# Altium footprint library HGH.PcbLib: 336 footprints (part 14 of 21)
Each footprint in its own frame and in the unit in brackets; x right, y up, seen from the top. Pads: shape width x height; smd on the part's side, far side on the other; paste and mask are expansions set on the pad; w line width, h text height; cw(c..) or ccw(c..) is an arc to the next point about the centre after c.
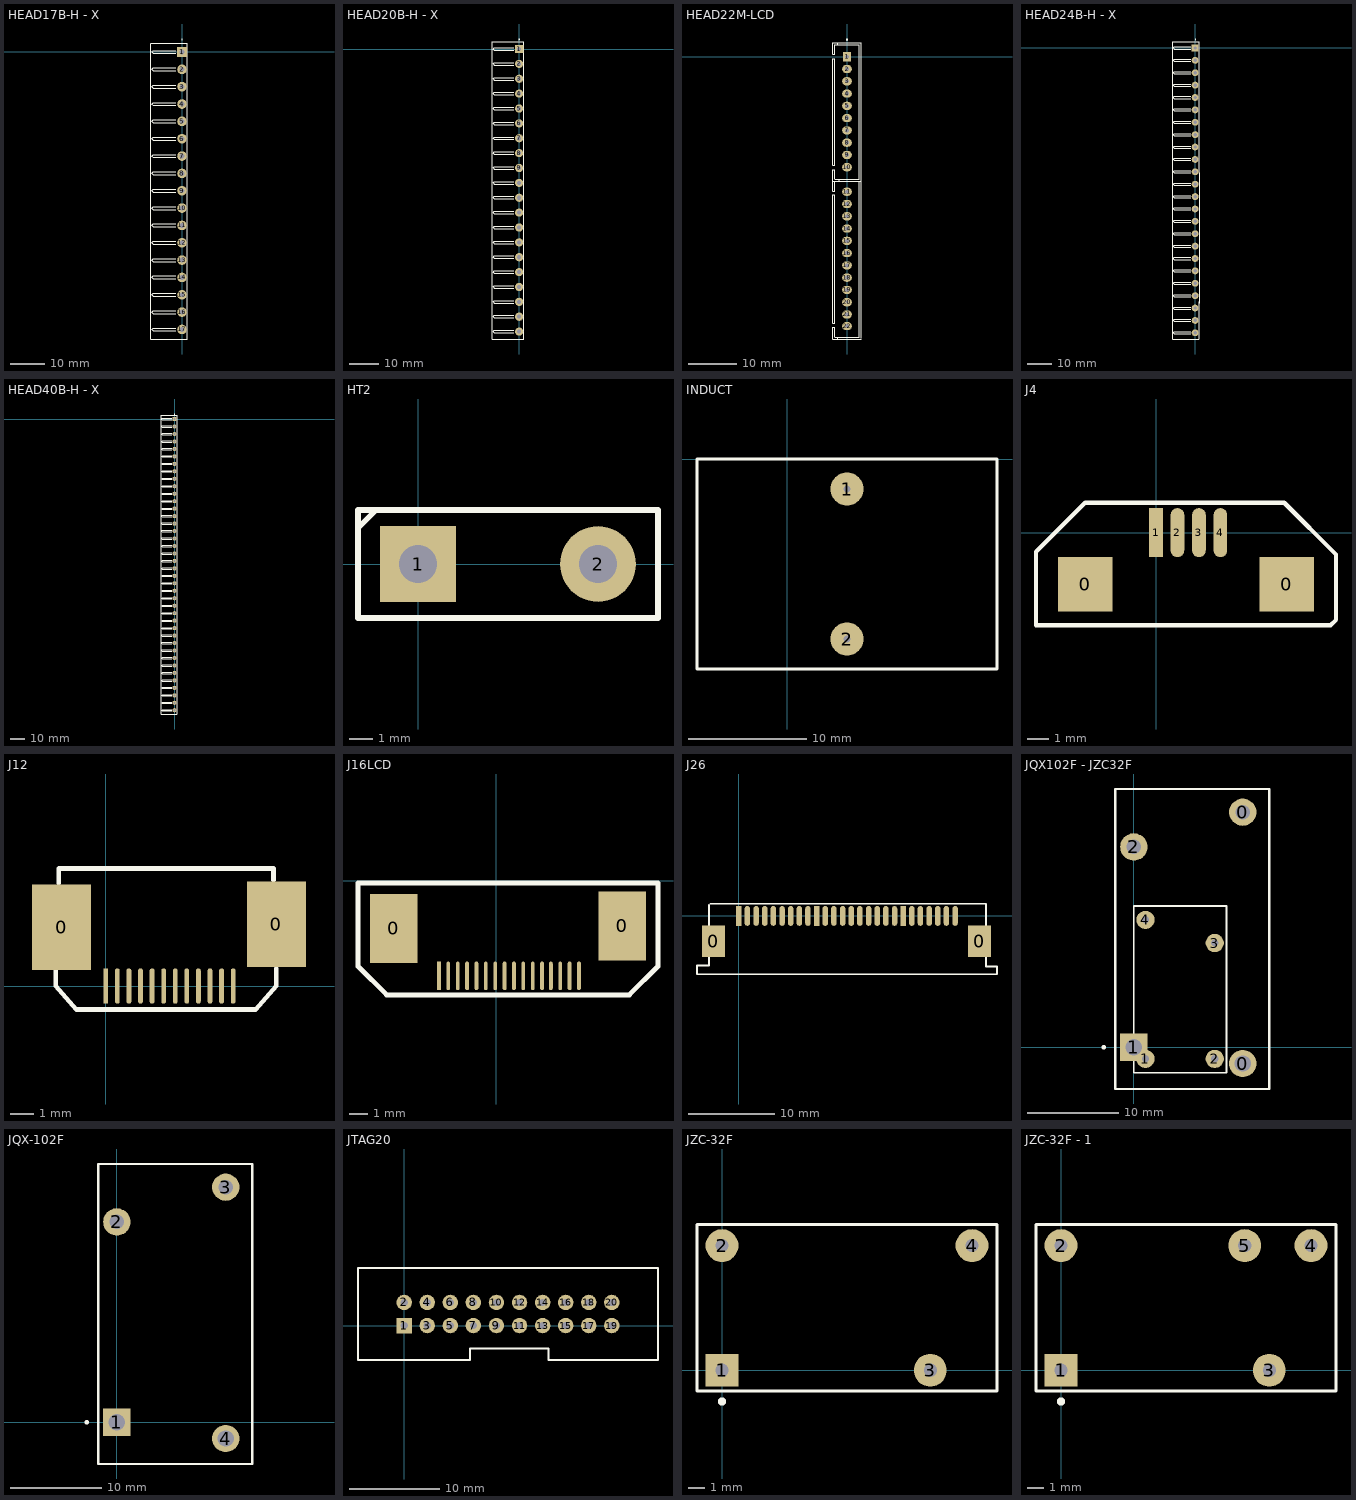
[diagram p13: the footprints below, top view; thin cyan lines are the x and y axes]

## HEAD17B-H - X [mm]
pads (17):
  rect 2.8x2.8 hole 1.4: 1(0,0)
  round 2.8 hole 1.4: 2(0,-5.08) 3(0,-10.16) 4(0,-15.24) 5(0,-20.32) 6(0,-25.4) 7(0,-30.48) 8(0,-35.56) 9(0,-40.64) 10(0,-45.72) 11(0,-50.8) 12(0,-55.88) 13(0,-60.96) 14(0,-66.04) 15(0,-71.12) 16(0,-76.2) 17(0,-81.28)
Top Overlay:
  circle w0.25: c0,3.681 r0.125
  lines w0.2: -9.144,2.413 -9.144,-84.074 1.524,-84.074 1.524,-58.42 ; -9.144,2.54 1.524,2.54 1.524,-58.801 ; -1.82,-81.703 -8.467,-81.703 -8.89,-81.28 -8.467,-80.857 -1.82,-80.857 ; -1.82,-76.623 -8.467,-76.623 -8.89,-76.2 -8.467,-75.777 -1.82,-75.777 ; -1.82,-71.543 -8.467,-71.543 -8.89,-71.12 -8.467,-70.697 -1.82,-70.697 ; -1.82,-66.463 -8.467,-66.463 -8.89,-66.04 -8.467,-65.617 -1.82,-65.617 ; -1.82,-61.383 -8.467,-61.383 -8.89,-60.96 -8.467,-60.537 -1.82,-60.537 ; -1.82,-56.303 -8.467,-56.303 -8.89,-55.88 -8.467,-55.457 -1.82,-55.457 ; -1.82,-51.223 -8.467,-51.223 -8.89,-50.8 -8.467,-50.377 -1.82,-50.377 ; -1.82,-46.143 -8.467,-46.143 -8.89,-45.72 -8.467,-45.297 -1.82,-45.297 ; -1.82,-41.063 -8.467,-41.063 -8.89,-40.64 -8.467,-40.217 -1.82,-40.217 ; -1.82,-35.983 -8.467,-35.983 -8.89,-35.56 -8.467,-35.137 -1.82,-35.137 ; -1.82,-30.903 -8.467,-30.903 -8.89,-30.48 -8.467,-30.057 -1.82,-30.057 ; -1.82,-25.823 -8.467,-25.823 -8.89,-25.4 -8.467,-24.977 -1.82,-24.977 ; -1.82,-20.743 -8.467,-20.743 -8.89,-20.32 -8.467,-19.897 -1.82,-19.897 ; -1.82,-15.663 -8.467,-15.663 -8.89,-15.24 -8.467,-14.817 -1.82,-14.817 ; -1.82,-10.583 -8.467,-10.583 -8.89,-10.16 -8.467,-9.737 -1.82,-9.737 ; -1.82,-5.503 -8.467,-5.503 -8.89,-5.08 -8.467,-4.657 -1.82,-4.657 ; -1.82,-0.423 -8.467,-0.423 -8.89,0 -8.467,0.423 -1.82,0.423

## HEAD20B-H - X [mm]
pads (20):
  rect 2.8x2.8 hole 1.4: 1(0,0)
  round 2.8 hole 1.4: 2(0,-5.08) 3(0,-10.16) 4(0,-15.24) 5(0,-20.32) 6(0,-25.4) 7(0,-30.48) 8(0,-35.56) 9(0,-40.64) 10(0,-45.72) 11(0,-50.8) 12(0,-55.88) 13(0,-60.96) 14(0,-66.04) 15(0,-71.12) 16(0,-76.2) 17(0,-81.28) 18(0,-86.36) 19(0,-91.44) 20(0,-96.52)
Top Overlay:
  circle w0.25: c0,3.3 r0.125
  lines w0.2: -1.82,-96.943 -8.467,-96.943 -8.89,-96.52 -8.467,-96.097 -1.82,-96.097 ; -1.82,-91.863 -8.467,-91.863 -8.89,-91.44 -8.467,-91.017 -1.82,-91.017 ; -1.82,-86.783 -8.467,-86.783 -8.89,-86.36 -8.467,-85.937 -1.82,-85.937 ; -1.82,-81.703 -8.467,-81.703 -8.89,-81.28 -8.467,-80.857 -1.82,-80.857 ; -1.82,-76.623 -8.467,-76.623 -8.89,-76.2 -8.467,-75.777 -1.82,-75.777 ; -1.82,-71.543 -8.467,-71.543 -8.89,-71.12 -8.467,-70.697 -1.82,-70.697 ; -1.82,-66.463 -8.467,-66.463 -8.89,-66.04 -8.467,-65.617 -1.82,-65.617 ; -1.82,-61.383 -8.467,-61.383 -8.89,-60.96 -8.467,-60.537 -1.82,-60.537 ; -1.82,-56.303 -8.467,-56.303 -8.89,-55.88 -8.467,-55.457 -1.82,-55.457 ; -1.82,-51.223 -8.467,-51.223 -8.89,-50.8 -8.467,-50.377 -1.82,-50.377 ; -1.82,-46.143 -8.467,-46.143 -8.89,-45.72 -8.467,-45.297 -1.82,-45.297 ; -1.82,-41.063 -8.467,-41.063 -8.89,-40.64 -8.467,-40.217 -1.82,-40.217 ; -1.82,-35.983 -8.467,-35.983 -8.89,-35.56 -8.467,-35.137 -1.82,-35.137 ; -1.82,-30.903 -8.467,-30.903 -8.89,-30.48 -8.467,-30.057 -1.82,-30.057 ; -1.82,-25.823 -8.467,-25.823 -8.89,-25.4 -8.467,-24.977 -1.82,-24.977 ; -1.82,-20.743 -8.467,-20.743 -8.89,-20.32 -8.467,-19.897 -1.82,-19.897 ; -1.82,-15.663 -8.467,-15.663 -8.89,-15.24 -8.467,-14.817 -1.82,-14.817 ; -1.82,-10.583 -8.467,-10.583 -8.89,-10.16 -8.467,-9.737 -1.82,-9.737 ; -1.82,-5.503 -8.467,-5.503 -8.89,-5.08 -8.467,-4.657 -1.82,-4.657 ; -1.82,-0.423 -8.467,-0.423 -8.89,0 -8.467,0.423 -1.82,0.423 ; 1.524,-88.9 1.524,-99.06 -9.144,-99.06 -9.144,-88.9 -9.144,-78.74 -9.144,-68.58 -9.144,-58.42 -9.144,-48.26 -9.144,-38.1 -9.144,-27.94 -9.144,-17.78 -9.144,-7.62 -9.144,2.54 1.524,2.54 1.524,-48.26 1.524,-88.773

## HEAD22M-LCD [mm]
pads (22):
  rect 1.7x2 hole 0.8: 1(0,0)
  oval 2x1.7 hole 0.8: 2(0,-2.54) 3(0,-5.08) 4(0,-7.62) 5(0,-10.16) 6(0,-12.7) 7(0,-15.24) 8(0,-17.78) 9(0,-20.32) 11(0,-27.94) 12(0,-30.48) 13(0,-33.02) 14(0,-35.56) 15(0,-38.1) 16(0,-40.64) 17(0,-43.18) 18(0,-45.72) 19(0,-48.26) 21(0,-53.34) 22(0,-55.753)
  oval 2x1.7 hole 0.6: 10(0,-22.86) 20(0,-50.8)
Top Overlay:
  circle w0.25: c0,3.554 r0.125
  lines w0.2: -2.54,-58.039 2.54,-58.039 ; -2.54,-25.4 2.54,-25.4 ; -2.54,2.54 2.54,2.54
  lines w0.254: -2.54,-57.912 -2.54,-56.007 -2.921,-56.007 -2.921,-58.42 2.921,-58.42 ; -2.54,-25.781 -2.54,-27.813 -2.921,-27.813 -2.921,-25.781 ; -2.54,-25.273 -2.54,-23.368 -2.921,-23.368 -2.921,-25.781 ; -2.54,2.54 -2.54,0.508 -2.921,0.508 -2.921,2.921 2.921,2.921 2.921,-25.781 -2.921,-25.781 ; -1.905,-58.42 -1.905,-58.039 ; -1.905,2.54 -1.905,2.794 ; -1.651,-25.781 -1.651,-25.4 ; 2.54,-58.039 2.54,-25.781 ; 2.54,-25.4 2.54,2.54 ; 2.921,-58.293 2.921,-25.654 ; -2.921,-55.118 -2.921,-28.575 -2.54,-28.575 -2.54,-55.118 -2.921,-55.118 ; -2.921,-22.479 -2.921,-0.381 -2.54,-0.381 -2.54,-22.479 -2.921,-22.479

## HEAD24B-H - X [mm]
pads (24):
  rect 2.8x2.8 hole 1.4: 1(0,0)
  round 2.8 hole 1.4: 2(0,-5.08) 3(0,-10.16) 4(0,-15.24) 5(0,-20.32) 6(0,-25.4) 7(0,-30.48) 8(0,-35.56) 9(0,-40.64) 10(0,-45.72) 11(0,-50.8) 12(0,-55.88) 13(0,-60.96) 14(0,-66.04) 15(0,-71.12) 16(0,-76.2) 17(0,-81.28) 18(0,-86.36) 19(0,-91.44) 20(0,-96.52) 21(0,-101.6) 22(0,-106.68) 23(0,-111.76) 24(0,-116.84)
Top Overlay:
  circle w0.25: c0.127,3.554 r0.125
  lines w0.2: -1.82,-117.263 -8.467,-117.263 -8.89,-116.84 -8.467,-116.417 -1.82,-116.417 ; -1.82,-112.183 -8.467,-112.183 -8.89,-111.76 -8.467,-111.337 -1.82,-111.337 ; -1.82,-107.103 -8.467,-107.103 -8.89,-106.68 -8.467,-106.257 -1.82,-106.257 ; -1.82,-102.023 -8.467,-102.023 -8.89,-101.6 -8.467,-101.177 -1.82,-101.177 ; -1.82,-96.943 -8.467,-96.943 -8.89,-96.52 -8.467,-96.097 -1.82,-96.097 ; -1.82,-91.863 -8.467,-91.863 -8.89,-91.44 -8.467,-91.017 -1.82,-91.017 ; -1.82,-86.783 -8.467,-86.783 -8.89,-86.36 -8.467,-85.937 -1.82,-85.937 ; -1.82,-81.703 -8.467,-81.703 -8.89,-81.28 -8.467,-80.857 -1.82,-80.857 ; -1.82,-76.623 -8.467,-76.623 -8.89,-76.2 -8.467,-75.777 -1.82,-75.777 ; -1.82,-71.543 -8.467,-71.543 -8.89,-71.12 -8.467,-70.697 -1.82,-70.697 ; -1.82,-66.463 -8.467,-66.463 -8.89,-66.04 -8.467,-65.617 -1.82,-65.617 ; -1.82,-61.383 -8.467,-61.383 -8.89,-60.96 -8.467,-60.537 -1.82,-60.537 ; -1.82,-56.303 -8.467,-56.303 -8.89,-55.88 -8.467,-55.457 -1.82,-55.457 ; -1.82,-51.223 -8.467,-51.223 -8.89,-50.8 -8.467,-50.377 -1.82,-50.377 ; -1.82,-46.143 -8.467,-46.143 -8.89,-45.72 -8.467,-45.297 -1.82,-45.297 ; -1.82,-41.063 -8.467,-41.063 -8.89,-40.64 -8.467,-40.217 -1.82,-40.217 ; -1.82,-35.983 -8.467,-35.983 -8.89,-35.56 -8.467,-35.137 -1.82,-35.137 ; -1.82,-30.903 -8.467,-30.903 -8.89,-30.48 -8.467,-30.057 -1.82,-30.057 ; -1.82,-25.823 -8.467,-25.823 -8.89,-25.4 -8.467,-24.977 -1.82,-24.977 ; -1.82,-20.743 -8.467,-20.743 -8.89,-20.32 -8.467,-19.897 -1.82,-19.897 ; -1.82,-15.663 -8.467,-15.663 -8.89,-15.24 -8.467,-14.817 -1.82,-14.817 ; -1.82,-10.583 -8.467,-10.583 -8.89,-10.16 -8.467,-9.737 -1.82,-9.737 ; -1.82,-5.503 -8.467,-5.503 -8.89,-5.08 -8.467,-4.657 -1.82,-4.657 ; -1.82,-0.423 -8.467,-0.423 -8.89,0 -8.467,0.423 -1.82,0.423 ; 1.524,-119.38 -9.144,-119.38 -9.144,-58.42 -9.144,2.54 1.524,2.54 1.651,-104.648 ; 1.651,-119.38 1.651,-104.14

## HEAD40B-H - X [mm]
pads (40):
  rect 2.8x2.8 hole 1.4: 1(0,0)
  round 2.8 hole 1.4: 2(0,-5.08) 3(0,-10.16) 4(0,-15.24) 5(0,-20.32) 6(0,-25.4) 7(0,-30.48) 8(0,-35.56) 9(0,-40.64) 10(0,-45.72) 11(0,-50.8) 12(0,-55.88) 13(0,-60.96) 14(0,-66.04) 15(0,-71.12) 16(0,-76.2) 17(0,-81.28) 18(0,-86.36) 19(0,-91.44) 20(0,-96.52) 21(0,-101.6) 22(0,-106.68) 23(0,-111.76) 24(0,-116.84) 25(0,-121.92) 26(0,-127) 27(0,-132.08) 28(0,-137.16) 29(0,-142.24) 30(0,-147.32) 31(0,-152.4) 32(0,-157.48) 33(0,-162.56) 34(0,-167.64) 35(0,-172.72) 36(0,-177.8) 37(0,-182.88) 38(0,-187.96) 39(0,-193.04) 40(0,-198.12)
Top Overlay:
  drawing of 184 lines, arcs and shapes, not listed

## HT2 [mm]
pads (2):
  rect 3.2x3.2 hole 1.6: 1(0,0)
  round 3.2 hole 1.6: 2(7.62,0)
Top Overlay:
  lines w0.254: -2.54,1.524 -1.778,2.286 ; -2.54,-2.286 -2.54,2.286 10.16,2.286 10.16,-2.286 -2.54,-2.286

## INDUCT [mm]
pads (2):
  round 2.8 hole 0.6: 1(5.08,-2.54) 2(5.08,-15.24)
Top Overlay:
  lines w0.254: -7.62,-17.78 17.78,-17.78 17.78,0 -5.08,0 -7.62,0 -7.62,-17.78

## J4 [mil]
pads (6):
  rect 100x100 smd: 0(-130,-95) 0(240,-95)
  rect 25x90 smd: 1(0,0)
  oval 25x90 smd: 2(39.37,0) 3(78.74,0) 4(118.11,0)
Top Overlay:
  lines w8: -220,-170 -220,-35 -130,55 10,55 235,55 330,-40 330,-160 320,-170 -220,-170

## J12 [mil]
pads (14):
  rect 100x145 smd: 0(-75,100) 0(290,105)
  rect 8x60 smd: 1(0,0)
  oval 8x60 smd: 2(19.68,0) 3(39.37,0) 4(59.06,0) 5(78.74,0) 6(98.43,0) 7(118.11,0) 8(137.8,0) 9(157.48,0) 10(177.17,0) 11(196.85,0) 12(216.53,0)
Top Overlay:
  lines w8: -85,30 -85,0 -50,-40 255,-40 290,0 290,30 ; -80,175 -80,200 285,200 285,180

## J16LCD [mil]
pads (18):
  rect 100x145 smd: 0(-215,-100) 0(265,-95)
  rect 8x60 smd: 1(-120,-200)
  oval 8x60 smd: 2(-100.31,-200) 3(-80.63,-200) 4(-60.94,-200) 5(-41.26,-200) 6(-21.57,-200) 7(-1.89,-200) 8(17.8,-200) 9(37.48,-200) 10(57.17,-200) 11(76.85,-200) 12(96.53,-200) 13(115,-200) 14(134.69,-200) 15(154.37,-200) 16(174.06,-200)
Top Overlay:
  lines w8: -170,-240 135,-240
  lines w10: 135,-240 240,-240 280,-240 340,-180 340,-5 -290,-5 -290,-180 -230,-240 -150,-240 140,-240

## J26 [mil]
pads (28):
  rect 105x145 smd: 0(-115,-115) 0(1095,-115)
  rect 25x90 smd: 1(0,0) 10(354.33,0) 20(748.03,0)
  oval 25x90 smd: 2(39.37,0) 3(78.74,0) 4(118.11,0) 5(157.48,0) 6(196.85,0) 7(236.22,0) 8(275.59,0) 9(314.96,0) 11(393.7,0) 12(433.07,0) 13(472.44,0) 14(511.81,0) 15(551.18,0) 16(590.55,0) 17(629.92,0) 18(669.29,0) 19(708.66,0) 21(787.4,0) 22(826.77,0) 23(866.14,0) 24(905.51,0) 25(944.88,0) 26(984.25,0)
Top Overlay:
  lines w8: -175,-265 1160,-265 1175,-265 1175,-230 1160,-230 1125,-230 1125,55 1115,55 1000,55 -5,55 ; -165,-265 -190,-265 -190,-225 -180,-225 -135,-225 -135,50 ; -130,55 10,55

## JQX102F - JZC32F [mm]
pads (8):
  round 3 hole 1.8: 0(11.938,-1.778)
  round 3 hole 1.6: 0(11.938,25.781) 2(0,21.971)
  rect 3x3 hole 1.8: 1(0,0)
  round 2 hole 0.8: 1(1.27,-1.27) 2(8.87,-1.27) 3(8.87,11.43) 4(1.27,13.97)
Top Overlay:
  circle w0.25: c-3.3,0 r0.125
  lines w0.2: -0.02,-2.794 -0.02,15.494 10.14,15.494 10.14,-2.794 -0.02,-2.794
  lines w0.254: 14.732,-4.572 -2.032,-4.572 -2.032,28.321 14.732,28.321 ; 14.859,-4.572 14.859,28.321

## JQX-102F [mm]
pads (4):
  rect 3x3 hole 1.8: 1(0,0)
  round 3 hole 1.6: 2(0,21.971) 3(11.938,25.781)
  round 3 hole 1.8: 4(11.938,-1.778)
Top Overlay:
  circle w0.25: c-3.3,0 r0.125
  lines w0.254: 14.732,-4.572 -2.032,-4.572 -2.032,28.321 14.732,28.321 ; 14.859,-4.572 14.859,28.321

## JTAG20 [mm]
pads (20):
  rect 1.7x1.7 hole 0.8: 1(0,0)
  round 1.7 hole 0.8: 2(0,2.54) 3(2.54,0) 4(2.54,2.54) 5(5.08,0) 6(5.08,2.54) 7(7.62,0) 8(7.62,2.54) 9(10.16,0) 10(10.16,2.54) 11(12.7,0) 12(12.7,2.54) 13(15.24,0) 14(15.24,2.54) 15(17.78,0) 16(17.78,2.54) 17(20.32,0) 18(20.32,2.54) 19(22.86,0) 20(22.86,2.54)
Top Overlay:
  lines w0.203: -5.08,-3.81 7.239,-3.81 7.239,-2.54 9.906,-2.54 15.875,-2.54 15.875,-3.81 20.066,-3.81 27.94,-3.81 27.94,6.35 9.779,6.35 8.382,6.35 -3.302,6.35 -5.08,6.35 -5.08,3.81 -5.08,-1.651 -5.08,-3.81

## JZC-32F [mm]
pads (4):
  rect 2x2 hole 0.8: 1(0,0)
  round 2 hole 0.8: 2(0,7.6) 3(12.7,0) 4(15.24,7.6)
Top Overlay:
  circle w0.25: c0.002,-1.905 r0.125
  lines w0.2: -1.524,-1.27 -1.524,8.89 16.764,8.89 16.764,-1.27 -1.524,-1.27

## JZC-32F - 1 [mm]
pads (5):
  rect 2x2 hole 0.8: 1(0,0)
  round 2 hole 0.8: 2(0,7.6) 3(12.7,0) 4(15.24,7.6) 5(11.2,7.6)
Top Overlay:
  circle w0.25: c0.002,-1.905 r0.125
  lines w0.2: -1.524,-1.27 16.764,-1.27 16.764,8.89 -1.524,8.89 -1.524,-1.27